# Altium schematic symbol library Schlib4.SchLib: 4 symbols
Pins are listed as number, name and electrical type; pins without a type are passive.

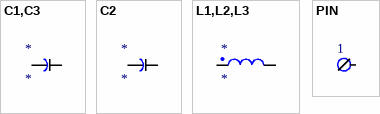
[diagram p0: symbols C1,C3 to PIN]

## C1,C3
designator *
footprint C1,C3
pins: 1, 2

## C2
designator *
footprint C2
pins: 1, 2

## L1,L2,L3
designator *
footprint L1,L2,L3
pins: 1, 2

## PIN
designator 1  (value not drawn)
footprint PIN
pins: 1